# EAGLE library part CON_SAMTEC (library 0SBLib)
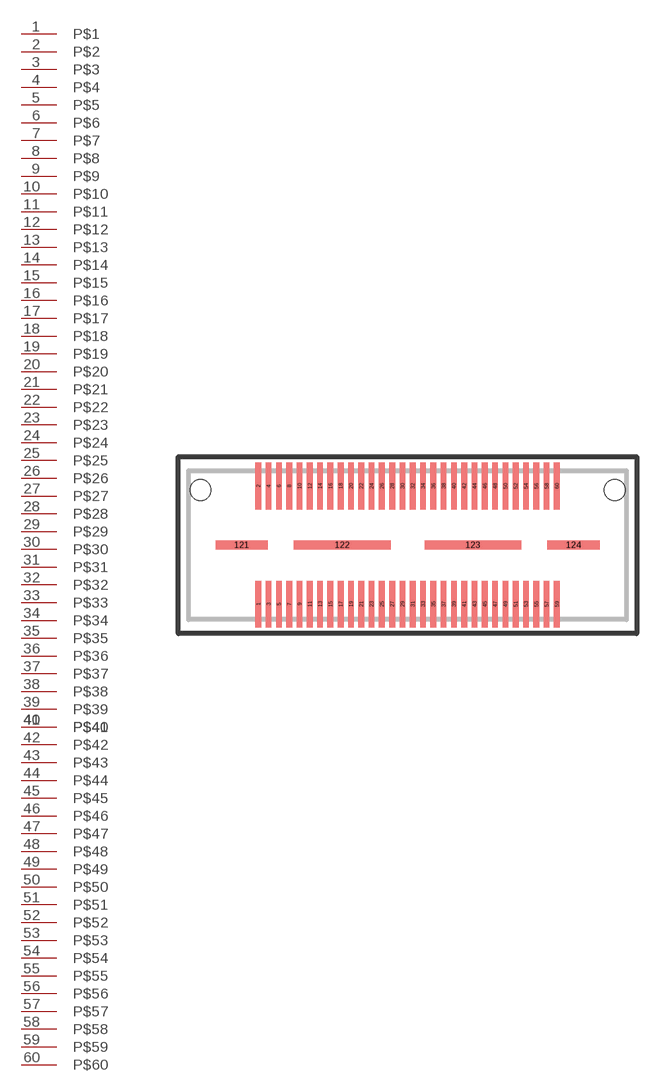
[diagram p21: symbol with the pads of QSH-060-01-X-D-A; footprint QSH-060-01-X-D-A]

Designator prefix -

## CON_SAMTEC  [QSH-060-01-X-D-A]
1  P$1
2  P$2
3  P$3
4  P$4
5  P$5
6  P$6
7  P$7
8  P$8
9  P$9
10  P$10
11  P$11
12  P$12
13  P$13
14  P$14
15  P$15
16  P$16
17  P$17
18  P$18
19  P$19
20  P$20
21  P$21
22  P$22
23  P$23
24  P$24
25  P$25
26  P$26
27  P$27
28  P$28
29  P$29
30  P$30
31  P$31
32  P$32
33  P$33
34  P$34
35  P$35
36  P$36
37  P$37
38  P$38
39  P$39
40  P$40
41  P$41
42  P$42
43  P$43
44  P$44
45  P$45
46  P$46
47  P$47
48  P$48
49  P$49
50  P$50
51  P$51
52  P$52
53  P$53
54  P$54
55  P$55
56  P$56
57  P$57
58  P$58
59  P$59
60  P$60

## Footprint QSH-060-01-X-D-A (pad centres in mm)
HIGH SPEED SOCKET STRIP, .5mm PITCH, 90 PINS PER ROW
smd 0.28 x 2.27: 1 -7.257,-2.87; 2 -7.257,2.87; 3 -6.756,-2.87; 4 -6.756,2.87; 5 -6.256,-2.87; 6 -6.256,2.87; 7 -5.756,-2.87; 8 -5.756,2.87; 9 -5.255,-2.87; 10 -5.255,2.87; 11 -4.755,-2.87; 12 -4.755,2.87; 13 -4.255,-2.87; 14 -4.255,2.87; 15 -3.754,-2.87; 16 -3.754,2.87; 17 -3.254,-2.87; 18 -3.254,2.87; 19 -2.753,-2.87; 20 -2.753,2.87; 21 -2.253,-2.87; 22 -2.253,2.87; 23 -1.753,-2.87; 24 -1.753,2.87; 25 -1.252,-2.87; 26 -1.252,2.87; 27 -0.752,-2.87; 28 -0.752,2.87; 29 -0.252,-2.87; 30 -0.252,2.87; 31 0.249,-2.87; 32 0.249,2.87; 33 0.749,-2.87; 34 0.749,2.87; 35 1.25,-2.87; 36 1.25,2.87; 37 1.75,-2.87; 38 1.75,2.87; 39 2.25,-2.87; 40 2.25,2.87; 41 2.751,-2.87; 42 2.751,2.87; 43 3.251,-2.87; 44 3.251,2.87; 45 3.752,-2.87; 46 3.752,2.87; 47 4.252,-2.87; 48 4.252,2.87; 49 4.752,-2.87; 50 4.752,2.87; 51 5.253,-2.87; 52 5.253,2.87; 53 5.753,-2.87; 54 5.753,2.87; 55 6.253,-2.87; 56 6.253,2.87; 57 6.754,-2.87; 58 6.754,2.87; 59 7.254,-2.87; 60 7.254,2.87
smd 2.54 x 0.432: 121 -8.066,0; 124 8.063,0
smd 4.699 x 0.432: 122 -3.176,0; 123 3.174,0
hole 1.016 at -10.066,2.667
hole 1.016 at 10.064,2.667